# EAGLE library part DIL22 (library ic-package)
Dual In Line / Socket
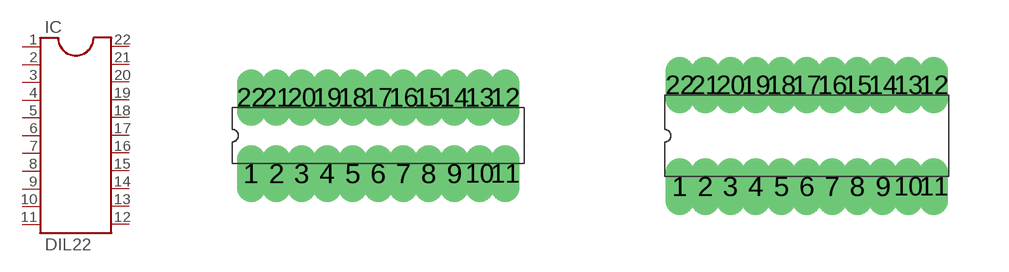
[diagram p10: symbol with the pads of DIL22-3; footprints DIL22-3, DIL22-4]

Designator prefix IC

## DIL22-3  [DIL22-3]
1  1  pas
2  2  pas
3  3  pas
4  4  pas
5  5  pas
6  6  pas
7  7  pas
8  8  pas
9  9  pas
10  10  pas
11  11  pas
12  12  pas
13  13  pas
14  14  pas
15  15  pas
16  16  pas
17  17  pas
18  18  pas
19  19  pas
20  20  pas
21  21  pas
22  22  pas

## DIL22-4  [DIL22-4]
Pads as for DIL22-3

## DIL22S-3  [SOCKET-22S]
Pads as for DIL22-3

## Footprint DIL22-3 (pad centres in mm)
Dual In Line Package 0.3 inch
drill 0.203 long: 1 -3.175,-0.953; 2 -2.54,-0.953; 3 -1.905,-0.953; 4 -1.27,-0.953; 5 -0.635,-0.953; 6 0,-0.953; 7 0.635,-0.953; 8 1.27,-0.953; 9 1.905,-0.953; 10 2.54,-0.953; 11 3.175,-0.953; 12 3.175,0.953; 13 2.54,0.953; 14 1.905,0.953; 15 1.27,0.953; 16 0.635,0.953; 17 0,0.953; 18 -0.635,0.953; 19 -1.27,0.953; 20 -1.905,0.953; 21 -2.54,0.953; 22 -3.175,0.953

## Footprint DIL22-4 (pad centres in mm)
Dual In Line 0.4 inch
drill 0.203 long: 1 -3.175,-1.27; 2 -2.54,-1.27; 3 -1.905,-1.27; 4 -1.27,-1.27; 5 -0.635,-1.27; 6 0,-1.27; 7 0.635,-1.27; 8 1.27,-1.27; 9 1.905,-1.27; 10 2.54,-1.27; 11 3.175,-1.27; 12 3.175,1.27; 13 2.54,1.27; 14 1.905,1.27; 15 1.27,1.27; 16 0.635,1.27; 17 0,1.27; 18 -0.635,1.27; 19 -1.27,1.27; 20 -1.905,1.27; 21 -2.54,1.27; 22 -3.175,1.27

## Footprint SOCKET-22S (pad centres in mm)
Dual In Line Socket Small
drill 0.203 long: 1 -3.175,-0.953; 2 -2.54,-0.953; 3 -1.905,-0.953; 4 -1.27,-0.953; 5 -0.635,-0.953; 6 0,-0.953; 7 0.635,-0.953; 8 1.27,-0.953; 9 1.905,-0.953; 10 2.54,-0.953; 11 3.175,-0.953; 12 3.175,0.953; 13 2.54,0.953; 14 1.905,0.953; 15 1.27,0.953; 16 0.635,0.953; 17 0,0.953; 18 -0.635,0.953; 19 -1.27,0.953; 20 -1.905,0.953; 21 -2.54,0.953; 22 -3.175,0.953